# Altium integrated library Inductor.IntLib: 19 symbols
Pins are listed as number, name and electrical type; pins without a type are passive.

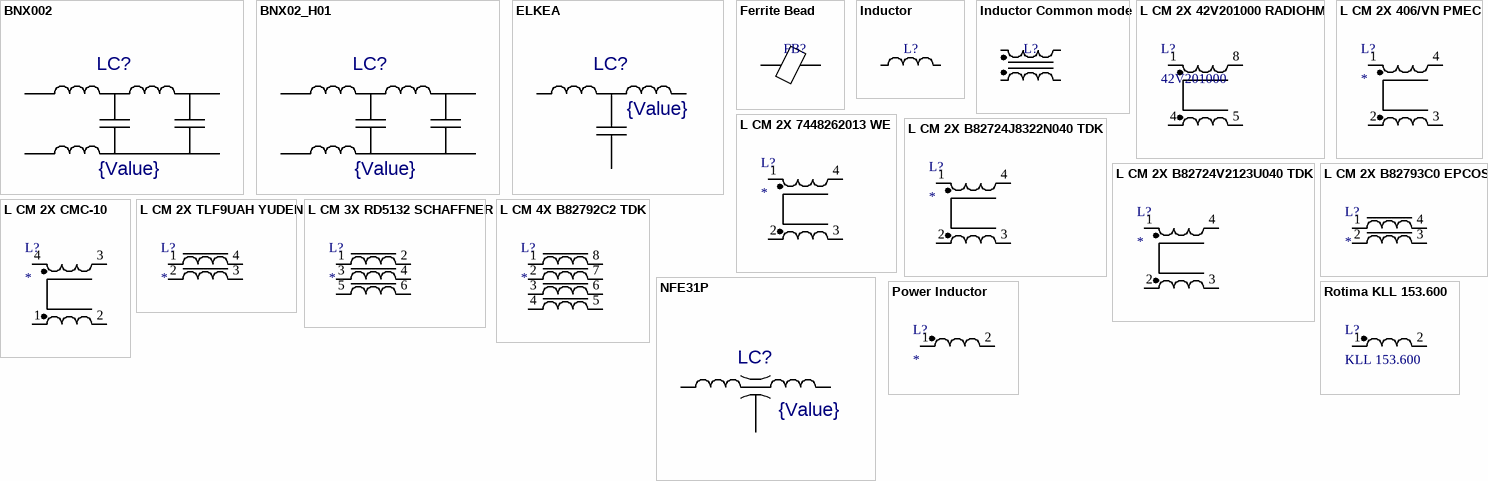
[diagram p0: symbols BNX002 to Rotima KLL 153.600]

## BNX002
designator LC?, comment {Value}
EMI Suppression Filters; Value: {Value}
footprint BNX002
pins: 1 B, 2 CB, 3 PSG, 4 CG, 5 CG, 6 CG

## BNX02_H01
designator LC?, comment {Value}
EMI Suppression Filters; Value: {Value}
footprint BNX02_H01 (SMD Block Type EMIFIL)
footprint BNX02_H01 - High Density (SMD Block Type EMIFIL - High Density)
pins: 1 B, 2 CB, 3 PSG, 4 CG

## ELKEA
designator LC?, comment {Value}
EMI filter Coil Type; Value: {Value}
footprint ELKEA (EMI filter Coil Type)
pins: 1 IN, 2 GND, 3 OUT

## Ferrite Bead
designator FB?  (value not drawn)
Ferrite Bead; Value: *
footprint FERRITE BEAD 1005 REFLOW (Ferrite bead SMD 1.0x0.5mm (0402-imperial))
pins: 1, 2

## Inductor
designator L?  (value not drawn)
Inductor; Value: *
footprint INDUCTOR 1005 REFLOW (Inductor SMD 1.0x0.5mm (0402-imperial))
footprint INDUCTOR 1608 REFLOW (Inductor SMD 1.6x0.8mm (0603-imperial))
footprint INDUCTOR 2012 REFLOW (Inductor SMD 2.0x1.2mm (0805-imperial))
footprint INDUCTOR 3216 REFLOW (Inductor SMD 3.2x1.6mm (1206-imperial))
footprint INDUCTOR WE 7447709102 (Inductor SMD 12.0x12.0 Height 10.0)
footprint DR73 (Precision Wire Wound Inductor, 2-Leads, Body 7.60x7.60mm)
footprint DR74 (Precision Wire Wound Inductor, 2-Leads, Body 7.60x7.60mm)
footprint L P5.0 D10.0 H13.0 (Inductor P5.0 D10.0 H13.0)
footprint TDK VLCF5020-1 (Inductor, 2-Leads, Body 5.0x5.0mm)
footprint ELLATP (Precision Wire Wound Inductor, 2-Leads, Body 10x10mm)
footprint DR1040 (Precision Wire Wound Inductor, 2-Leads, Body 10.3x10.5mm)
footprint XFL2006 (Inductor, 2-Leads, Body 2.0x2.0mm, Height 0.6mm Coilcraft XFL2006)
footprint TDK ERU16 (Inductor SMD 17.4x18.8 Height 11.0)
footprint SUMIDA CDRH3D16/HP (Inductor, 2-Leads, Body 3.8x3.8mm)
footprint DR125 (Inductor DR125)
footprint Inductor Coilcraft 1008PS (Inductor, 2-Leads, Body 3.80X3.80mm Heigt 2.75)
footprint SUMIDA CDRH104R (Inductor, 2-Leads, Body 10.0x10.0mm)
footprint SESI 9.1 WR (SMD Power Inductor SESI 9.1 WR Hi-Rel)
footprint INDUCTOR WE 7440310047 (Inductor WE-TPC SMD 3.8x3.8 Height 1.65)
footprint Vishay IHLP-2525CZ-01 (Inductor, 2-Leads, Body 6.5x6.5mm)
footprint INDUCTOR Abracon ASPI-0315FS (Inductor WE-TPC SMD 3.0x3.0 Height 1.5)
footprint L P12.5 D4.0 L10.0 (Inductor)
footprint INDUCTOR EATON UP2B (Inductor SMD 14x10.4 Height 6.0)
footprint LPS4018 (Inductor, 2-Leads, Body 4.0x4.0mm, Height 1.7mm Coilcraft LPS4018)
footprint XFL4020 (Inductor, 2-Leads, Body 4.0x4.0mm, Height 2.1mm Coilcraft XFL4020)
footprint INDUCTOR 3225 REFLOW (Inductor SMD 3.2x2.5mm (1210-imperial))
footprint L P7.5 D20.0 H27.0 (Inductor P7.5 D20.0 H27.0)
footprint Vishay IHLP-3232DZ-01 (Inductor, 2-Leads, Body 8.2x8.2mm, Height 4.0mm)
footprint INDUCTOR 4532 REFLOW (Inductor SMD 3.2x2.5mm (1210-imperial))
footprint INDUCTOR 5750 REFLOW (Inductor SMD 3.2x2.5mm (1210-imperial))
footprint RECOM RLS-126 (Inductor, 2-Leads, Body 4.5x3.2mm)
footprint MSS5131 (Inductor, 2-Leads, Body 5.1x5.1mm, Height 3.1mm)
footprint INDUCTOR 0603 REFLOW (Inductor SMD 0.6x0.3mm (0201-imperial))
pins: 1, 2

## Inductor Common mode
designator L?  (value not drawn)
Inductor Common Mode Filter; Value: *
footprint WE-CNSW- C3.2x1.6 (Common mode Line Filter WE WE-CNSW Size 3216)
footprint WE-CNSW- C4.5x3.2 (Common mode Line Filter WE WE-CNSW Size 4532)
pins: 1, 2, 3, 4

## L CM 2X 42V201000 RADIOHM
designator L?, comment 42V201000
Common Mode Filter; Manufacturer: Radiohm; Value: 42V201000; Schukat No.: 42V201000
footprint L CM 2X 42V201000 RADIOHM (Choke 2x 6.8mH 1.0A P15.0 Vertical)
pins: 1, 4, 5, 8

## L CM 2X 406/VN PMEC
designator L?
Common Mode Filter; Value: *
footprint L CM 2X 406/VN PMEC
pins: 1, 2, 3, 4

## L CM 2X 7448262013 WE
designator L?
WE-CMB Common Mode Power Line Chok; Value: *
footprint L CM 2X 406/VN PMEC
pins: 1, 2, 3, 4

## L CM 2X B82724J8322N040 TDK
designator L?
Common Mode Filter; Value: *
footprint L CM 2X B82724J8322N040 TDK
pins: 1, 2, 3, 4

## L CM 2X B82724V2123U040 TDK
designator L?
Common Mode Filter; Value: *
footprint L CM 2X B8272*V2*U* SIZE A TDK (TDK Current-compensated ring core double choke Size A)
pins: 1, 2, 3, 4

## L CM 2X B82793C0 EPCOS
designator L?
Inductor Common Mode Filter; Value: *
footprint L CM 2X B82793C EPCOS
pins: 1, 2, 3, 4

## L CM 2X CMC-10
designator L?
RECOM Common Mode Filter; Value: *
footprint L CM 2X CMC-10 RECOM (RECOM CMC-10)
pins: 1, 2, 3, 4

## L CM 2X TLF9UAH YUDEN
designator L?
Inductor Common Mode Filter; Value: *
footprint L CM 2X TLF9UAH YUDEN
pins: 1, 2, 3, 4

## L CM 3X RD5132 SCHAFFNER
designator L?
Inductor Common Mode Filter; Value: *
footprint L CM 3X RD5132 SCHAFFNER
pins: 1, 2, 3, 4, 5, 6

## L CM 4X B82792C2 TDK
designator L?
Inductor Common Mode Filter; Value: *
footprint L CM 4X B82792C2 TDK
pins: 1, 2, 3, 4, 5, 6, 7, 8

## NFE31P
designator LC?, comment {Value}
EMI Suppression Filters; Value: {Value}
footprint NFE31P (EMI Suppression Filters)
pins: 1 IN, 2 GND, 3 OUT

## Power Inductor
designator L?
Power Inductor; Value: *
footprint L D42.0 W14.0 RM14.0 PMEC 226/B (Power Inductor)
footprint L D42.0 W20.0 RM20.0 PMEC  226/BV (Power Inductor)
footprint L D55.0 W30.0 RM26.0 (Power Inductor)
footprint L D55.0 W45.0 RM45.0 KOOLMU 77439A7 (Power Inductor)
footprint L D55.0 W30.0 RM26.0 Horizontal (Power Inductor)
footprint L D44.0 W16.0 RM15.0 (Power Inductor)
footprint L PE-51508NL PULSE (WE-CMB Common Mode Power Line Chok)
pins: 1, 2

## Rotima KLL 153.600
designator L?, comment KLL 153.600
Chokes based on ring core R 29; Manufacturer: Rotima; Value: KLL 153.600; Rotima No: 153.600
footprint ROTIMA KLL 153.600 (Choke 2x 6.8mH 1.0A P15.0 Vertical)
pins: 1, 2